# Altium schematic symbol library Inductors (HPI1260).SchLib: 1 symbol
Pins are listed as number, name and electrical type; pins without a type are passive.

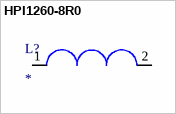
[diagram p0: symbol HPI1260-8R0]

## HPI1260-8R0
designator L?
Value: 8 uH; Tolerance: ±20%; Saturation current: 9.5A; Temperature range: -55 to +125 °C
footprint Inductor 13.8x12.6x4.8mm
pins: 1, 2